# EAGLE library part ISSI_SRAM_8BIT (library zxuno_rev_mcleod)
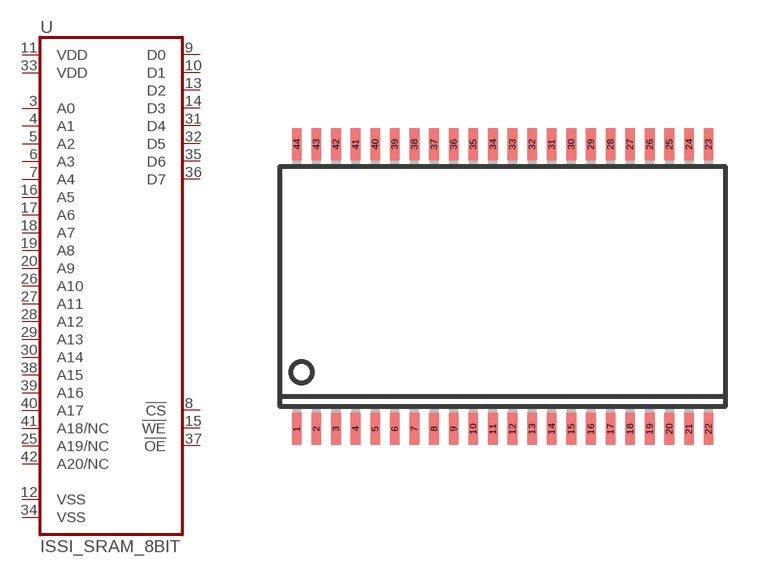
[diagram p1: symbol with the pads of TSOP44-II; footprint TSOP44-II]

Designator prefix -

## ISSI_SRAM_8BIT  [TSOP44-II]
3  A0  in
4  A1  in
5  A2  in
6  A3  in
7  A4  in
8  !CS  in
9  D0
10  D1
11  VDD  in
12  VSS  in
13  D2
14  D3
15  !WE  in
16  A5  in
17  A6  in
18  A7  in
19  A8  in
20  A9  in
25  A19/NC  in
26  A10  in
27  A11  in
28  A12  in
29  A13  in
30  A14  in
31  D4
32  D5
33  VDD  in
34  VSS  in
35  D6
36  D7
37  !OE  in
38  A15  in
39  A16  in
40  A17  in
41  A18/NC  in
42  A20/NC  in

## Footprint TSOP44-II (pad centres in mm)
44 lead Plastic Thin Small Outline Type II
smd 0.4 x 1.3: 1 -8.4,-5.8; 2 -7.6,-5.8; 3 -6.8,-5.8; 4 -6,-5.8; 5 -5.2,-5.8; 6 -4.4,-5.8; 7 -3.6,-5.8; 8 -2.8,-5.8; 9 -2,-5.8; 10 -1.2,-5.8; 11 -0.4,-5.8; 12 0.4,-5.8; 13 1.2,-5.8; 14 2,-5.8; 15 2.8,-5.8; 16 3.6,-5.8; 17 4.4,-5.8; 18 5.2,-5.8; 19 6,-5.8; 20 6.8,-5.8; 21 7.6,-5.8; 22 8.4,-5.8; 23 8.4,5.8; 24 7.6,5.8; 25 6.8,5.8; 26 6,5.8; 27 5.2,5.8; 28 4.4,5.8; 29 3.6,5.8; 30 2.8,5.8; 31 2,5.8; 32 1.2,5.8; 33 0.4,5.8; 34 -0.4,5.8; 35 -1.2,5.8; 36 -2,5.8; 37 -2.8,5.8; 38 -3.6,5.8; 39 -4.4,5.8; 40 -5.2,5.8; 41 -6,5.8; 42 -6.8,5.8; 43 -7.6,5.8; 44 -8.4,5.8